# Altium schematic symbol library CONBNC002.SchLib: 1 symbol
Pins are listed as number, name and electrical type; pins without a type are passive.

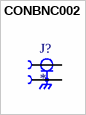
[diagram p0: symbol CONBNC002]

## CONBNC002
designator J?
<a href="https://pricing.snapeda.com/parts/CONBNC002/Linx%20Technologies%20Inc./view-part?ref=eda">Check availability</a> <a href="https://pricing.snapeda.com/parts/CONBNC002/Linx%20Technologies%20Inc./view-part?ref=eda">Check availability</a>; MF: {'manufacturer': u'TE Connectivity'}; Package: None; Price: None; Value: *; MP: CONBNC002; Availability: Unavailable
footprint LINX_CONBNC002
pins: 1, 2, S1 2, S2 2